# Altium integrated library Renesas Microprocessor SuperH.IntLib: 433 symbols (part 8 of 62)
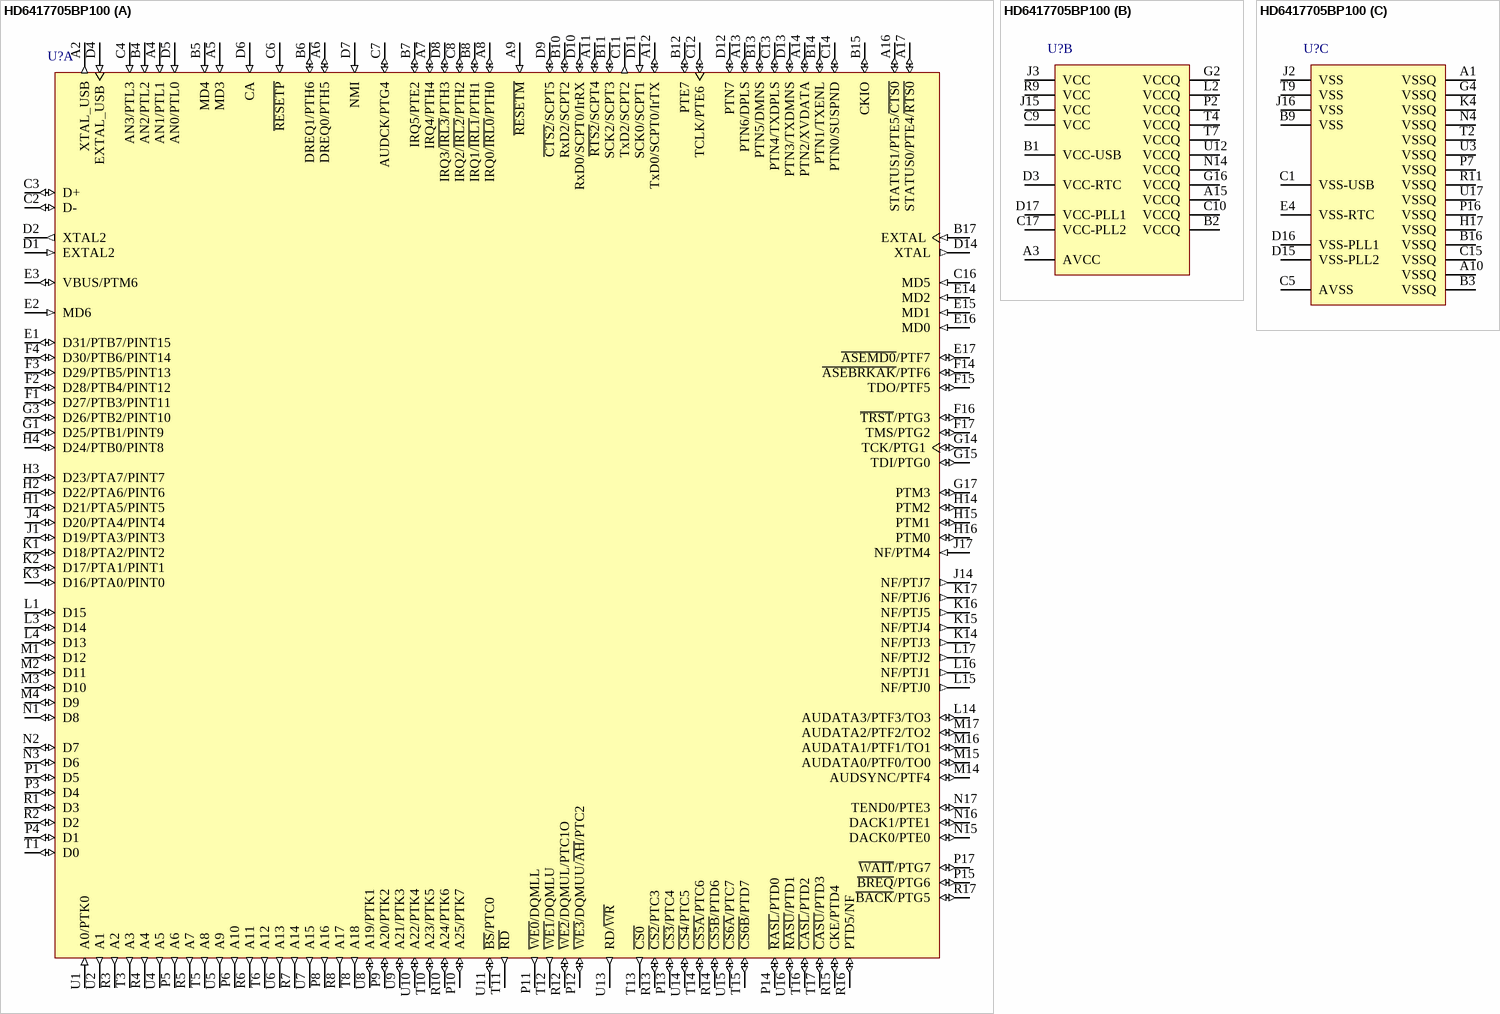
[diagram p283: symbol HD6417705BP100]

## HD6417705BP100
designator U?
32-Bit RISC Microcomputer, SH7700 Series, SH-3 core, 100MHz, 208-pin TFBGA, -20 to 75°C; Published: 28-Aug-2009; DatasheetVersion: Rev.2.00, Sep-2003; PackageVersion: Sep-2005; PackageReference: TTBG0208JA-A; Publisher: Altium Limited; PackageDescription: 208-Ball Thin Fine-Pitch Ball Grid Array, 12 x 12 mm Body, 0.65 mm Pitch; Code_JEITA: T-TFBGA208-12x12-0.65; ComponentLink1Description: Manufacturer Link; ComponentLink1URL: http://www.renesas.com/fmwk.jsp?cnt=sh7705_root.jsp&fp=/products/mpumcu/superh_family/sh7700_series/sh7705_group/; ComponentLink2Description: Datasheet; ComponentLink2URL: http://documentation.renesas.com/eng/products/mpumcu/rej09b0082_sh7705.pdf; ComponentLink3Description: Packaging Specification; ComponentLink3URL: http://sg.renesas.com/media/products/common_info/package/pdf/ic/code/ttbg0208ja_a.pdf
footprint TTBG0208JA-A (BGA, 208-Leads, Body 12x12mm, Pitch 0.65mm)
part A pins: A2 XTAL_USB (out) "USB clock", A4 AN1/PTL1 (in) "A/D converter input / input port L", A5 MD3 (in) "Area 0 bus width setting", A6 DREQ0/PTH5 (io) "DMA request / input/output port H", A7 IRQ4/PTH4 (io) "External interrupt request / input/output port H", A8 IRQ0/~{IRL0}/PTH0 (io) "External interrupt request / input/output port H", A9 ~{RESETM} (in) "Manual reset request", A11 ~{RTS2}/SCPT4 (io) "SCIF2 transmit request / SC port", A12 TxD0/SCPT0/IrTX (io) "SCIF0 transmit data / SC port / IrDA TX port", A13 PTN6/DPLS (io) "input/output port N / D+ input from USBreceiver", A14 PTN2/XVDATA (io) "input/output port N / USB differential receive input", A16 STATUS1/PTE5/~{CTS0} (io) "Processor status/ input/output port E / SCIF0transmit clear", A17 STATUS0/PTE4/~{RTS0} (io) "Processor status / input/output port E / SCIF0transmit request", B4 AN2/PTL2 (in) "A/D converter input / input port L", B5 MD4 (in) "Area 0 bus width setting", B6 DREQ1/PTH6 (io) "DMA request / input/output port H", B7 IRQ5/PTE2 (io) "External interrupt request / input/output port E", B8 IRQ1/~{IRL1}/PTH1 (io) "External interrupt request / input/output port H", B10 RxD2/SCPT2 (io) "SCIF2 receive data / SC port", B11 SCK2/SCPT3 (io) "SCIF2 clock / SC port", B12 PTE7 (io) "Input/output port E", B13 PTN5/DMNS (io) "input/output port N / D- input from USBreceiver", B14 PTN1/TXENL (io) "input/output port N / USB output enable", B15 CKIO (io) "I/O System clock input/output", B17 EXTAL (in) "External clock / crystal oscillator pin", C2 D- (io) "USB data line", C3 D+ (io) "USB data line", C4 AN3/PTL3 (in) "A/D converter input / input port L", C6 ~{RESETP} (in) "Power-on reset request", C7 AUDCK/PTG4 (io) "AUD clock / input/output port G", C8 IRQ2/~{IRL2}/PTH2 (io) "External interrupt request / input/output port H", C11 TxD2/SCPT2 (out) "SCIF2 transmit data / SC port", C12 TCLK/PTE6 (io) "TMU clock input / input/output port E", C13 PTN4/TXDPLS (io) "input/output port N / USB D+ transmit output", C14 PTN0/SUSPND (io) "input/output port N / USB suspend", C16 MD5 (in) "Endian setting", D1 EXTAL2 (in) "Crystal oscillator pin for on-chip RTC", D2 XTAL2 (out) "Crystal oscillator pin for on-chip RTC", D4 EXTAL_USB (in) "USB clock", D5 AN0/PTL0 (in) "A/D converter input / input port L", D6 CA (in) "Hardware standby request", D7 NMI (in) "Nonmaskable interrupt request", D8 IRQ3/~{IRL3}/PTH3 (io) "External interrupt request / input/output port H", D9 ~{CTS2}/SCPT5 (io) "SCIF2 transmit clear / SC port", D10 RxD0/SCPT0/IrRX (io) "SCIF0 receive data / SC port / IrDA RX port", D11 SCK0/SCPT1 (in) "SCIF0 clock / SC port", D12 PTN7 (io) "input/output port N", D13 PTN3/TXDMNS (io) "input/output port N / USB D- transmit output", D14 XTAL (out) "Crystal oscillator pin", E1 D31/PTB7/PINT15 (io) "Data bus / input/output port B / PINT interrupt", E2 MD6 (in) "connect to I/O power supply (0V)", E3 VBUS/PTM6 (io) "USB power supply detection / input/output port M", E14 MD2 (in) "Clock mode setting", E15 MD1 (in) "Clock mode setting", E16 MD0 (in) "Clock mode setting", E17 ~{ASEMD0}/PTF7 (io) "ASE mode (UDI) / input/output port F", F1 D27/PTB3/PINT11 (io) "Data bus / input/output port B / PINT interrupt", F2 D28/PTB4/PINT12 (io) "Data bus / input/output port B / PINT interrupt", F3 D29/PTB5/PINT13 (io) "Data bus / input/output port B / PINT interrupt", F4 D30/PTB6/PINT14 (io) "Data bus / input/output port B / PINT interrupt", F14 ~{ASEBRKAK}/PTF6 (io) "ASE break acknowledge (UDI) / input/outputport F", F15 TDO/PTF5 (io) "Test data output (UDI) / input/output port F", F16 ~{TRST}/PTG3 (io) "Test reset (UDI) / input/outputport G", F17 TMS/PTG2 (io) "Test mode select (UDI) / input/output port G", G1 D25/PTB1/PINT9 (io) "Data bus / input/output port B / PINT interrupt", G3 D26/PTB2/PINT10 (io) "Data bus / input/output port B / PINT interrupt", G14 TCK/PTG1 (io) "Test clock (UDI) / input/output port G", G15 TDI/PTG0 (io) "Test data input (UDI) / input/output port G", G17 PTM3 (io) "Input/output port M", H1 D21/PTA5/PINT5 (io) "Data bus / input/output port A / PINT interrupt", H2 D22/PTA6/PINT6 (io) "Data bus / input/output port A / PINT interrupt", H3 D23/PTA7/PINT7 (io) "Data bus / input/output port A / PINT interrupt", H4 D24/PTB0/PINT8 (io) "Data bus / input/output port B / PINT interrupt", H14 PTM2 (io) "Input/output port M", H15 PTM1 (io) "Input/output port M", H16 PTM0 (io) "Input/output port M", J1 D19/PTA3/PINT3 (io) "Data bus / input/output port A / PINT interrupt", J4 D20/PTA4/PINT4 (io) "Data bus / input/output port A / PINT interrupt", J14 NF/PTJ7 (out) "NF / output port J", J17 NF/PTM4 (in) "NF / input port M", K1 D18/PTA2/PINT2 (io) "Data bus / input/output port A / PINT interrupt", K2 D17/PTA1/PINT1 (io) "Data bus / input/output port A / PINT interrupt", K3 D16/PTA0/PINT0 (io) "Data bus / input/output port A / PINT interrupt", K14 NF/PTJ3 (out) "NF / output port J", K15 NF/PTJ4 (out) "NF / output port J", K16 NF/PTJ5 (out) "NF / output port J", K17 NF/PTJ6 (out) "NF / output port J", L1 D15 (io) "Data bus", L3 D14 (io) "Data bus", L4 D13 (io) "Data bus", L14 AUDATA3/PTF3/TO3 (io) "AUD data output/input/output port F / timer output", L15 NF/PTJ0 (out) "NF / output port J", L16 NF/PTJ1 (out) "NF / output port J", L17 NF/PTJ2 (out) "NF / output port J", M1 D12 (io) "Data bus", M2 D11 (io) "Data bus", M3 D10 (io) "Data bus", M4 D9 (io) "Data bus", M14 AUDSYNC/PTF4 (io) "AUD synchronous / input/output port F", M15 AUDATA0/PTF0/TO0 (io) "AUD data output/input/output port F / timer output", M16 AUDATA1/PTF1/TO1 (io) "AUD data output/input/output port F / timer output", M17 AUDATA2/PTF2/TO2 (io) "AUD data output/input/output port F / timer output", N1 D8 (io) "Data bus", N2 D7 (io) "Data bus", N3 D6 (io) "Data bus", N15 DACK0/PTE0 (io) "DMA acknowledge 0 / input/output port E", N16 DACK1/PTE1 (io) "DMA acknowledge 1 / input/output port E", N17 TEND0/PTE3 (io) "DMA transfer end notification / input/outputport E", P1 D5 (io) "Data bus", P3 D4 (io) "Data bus", P4 D1 (io) "Data bus", P5 A6 (out) "Address bus", P6 A10 (out) "Address bus", P8 A16 (out) "Address bus", P9 A20/PTK2 (io) "Address bus / input/output port K", P10 A25/PTK7 (io) "Address bus / input/output port K", P11 ~{WE0}/DQMLL (out) "D7 to D0 select signal / DQM (SDRAM)", P12 ~{WE3}/DQMUU/~{AH}/PTC2 (io) "D31 to D24 select signal / DQM (SDRAM) / address hold / input/output port C", P13 ~{CS3}/PTC4 (io) "Chip select 3 / input/output port C", P14 ~{RASL}/PTD0 (io) "Lower 32 Mbytes address RAS (SDRAM) / input/output port D", P15 ~{BREQ}/PTG6 (io) "Bus request / input/output port G", P17 ~{WAIT}/PTG7 (io) "Hardware wait request / input/output port G", R1 D3 (io) "Data bus", R2 D2 (io) "Data bus", R3 A2 (out) "Address bus", R4 A4 (out) "Address bus", R5 A7 (out) "Address bus", R6 A11 (out) "Address bus", R7 A14 (out) "Address bus", R8 A17 (out) "Address bus", R10 A24/PTK6 (io) "Address bus / input/output port K", R12 ~{WE2}/DQMUL/PTC1O (io) "D23 to D16 select signal / DQM (SDRAM) / input/output port C", R13 ~{CS2}/PTC3 (io) "Chip select 2 / input/output port C", R14 ~{CS5B}/PTD6 (io) "Chip select 5B / input/output port D", R15 CKE/PTD4 (io) "CK enable (SDRAM) / input/output port D", R16 PTD5/NF (io) "Input port D / NF", R17 ~{BACK}/PTG5 (io) "Bus acknowledge / input/output port G", T1 D0 (io) "Data bus", T3 A3 (out) "Address bus", T5 A8 (out) "Address bus", T6 A12 (out) "Address bus", T8 A18 (out) "Address bus", T10 A23/PTK5 (io) "Address bus / input/output port K", T11 ~{RD} (out) "Read strobe", T12 ~{WE1}/DQMLU (out) "D15 to D8 select signal / DQM (SDRAM)", T13 ~{CS0} (out) "Chip select 0", T14 ~{CS5A}/PTC6 (io) "Chip select 5A / input/output port C", T15 ~{CS6B}/PTD7 (io) "Chip select 6B / input/output port D", T16 ~{CASL}/PTD2 (io) "Lower 32 Mbytes address CAS (SDRAM) / input/output port D", T17 ~{CASU}/PTD3 (io) "Upper 32 Mbytes address CAS (SDRAM) / input/output port D", U1 A0/PTK0 (in) "Address bus / input/output port K", U2 A1 (out) "Address bus", U4 A5 (out) "Address bus", U5 A9 (out) "Address bus", U6 A13 (out) "Address bus", U7 A15 (out) "Address bus", U8 A19/PTK1 (io) "Address bus / input/output port K", U9 A21/PTK3 (io) "Address bus / input/output port K", U10 A22/PTK4 (io) "Address bus / input/output port K", U11 ~{BS}/PTC0 (io) "Bus cycle start signal / input/output port C", U13 RD/~{WR} (out) "Read/write", U14 ~{CS4}/PTC5 (io) "Chip select 4 / input/output port C", U15 ~{CS6A}/PTC7 (io) "Chip select 6A / input/output port C", U16 ~{RASU}/PTD1 (io) "Upper 32 Mbytes address RAS (SDRAM) / input/output port D"
part B pins: A3 AVCC (power) "Analog power supply (3.3V)", A15 VCCQ (power) "I/O power supply (3.3V)", B1 VCC-USB (power) "USB power supply (3.3V)", B2 VCCQ (power) "I/O power supply (3.3V)", C9 VCC (power) "Internal power supply (1.5V)", C10 VCCQ (power) "I/O power supply (3.3V)", C17 VCC-PLL2 (power) "PLL2 power supply (1.5V)", D3 VCC-RTC (power) "RTC power supply (3.3V)", D17 VCC-PLL1 (power) "PLL1 power supply (1.5V)", G2 VCCQ (power) "I/O power supply (3.3V)", G16 VCCQ (power) "I/O power supply (3.3V)", J3 VCC (power) "Internal power supply (1.5V)", J15 VCC (power) "Internal power supply (1.5V)", L2 VCCQ (power) "I/O power supply (3.3V)", N14 VCCQ (power) "I/O power supply (3.3V)", P2 VCCQ (power) "I/O power supply (3.3V)", R9 VCC (power) "internal power supply (1.5V)", T4 VCCQ (power) "I/O power supply (3.3V)", T7 VCCQ (power) "I/O power supply (3.3V)", U12 VCCQ (power) "I/O power supply (3.3V)"
part C pins: A1 VSSQ (power) "I/O power supply (0V)", A10 VSSQ (power) "I/O power supply (0V)", B3 VSSQ (power) "I/O power supply (0V)", B9 VSS (power) "I/O power supply (0V)", B16 VSSQ (power) "I/O power supply (0V)", C1 VSS-USB (power) "USB power supply (0V)", C5 AVSS (power) "Analog power supply (0V)", C15 VSSQ (power) "I/O power supply (0V)", D15 VSS-PLL2 (power) "PLL2 power supply (0V)", D16 VSS-PLL1 (power) "PLL1 power supply (0V)", E4 VSS-RTC (power) "RTC power supply (0V)", G4 VSSQ (power) "I/O power supply (0V)", H17 VSSQ (power) "I/O power supply (0V)", J2 VSS (power) "Internal power supply (0V)", J16 VSS (power) "Internal power supply (0V)", K4 VSSQ (power) "I/O power supply (0V)", N4 VSSQ (power) "I/O power supply (0V)", P7 VSSQ (power) "I/O power supply (0V)", P16 VSSQ (power) "I/O power supply (0V)", R11 VSSQ (power) "I/O power supply (0V)", T2 VSSQ (power) "I/O power supply (0V)", T9 VSS (power) "internal power supply (0V)", U3 VSSQ (power) "I/O power supply (0V)", U17 VSSQ (power) "I/O power supply (0V)"

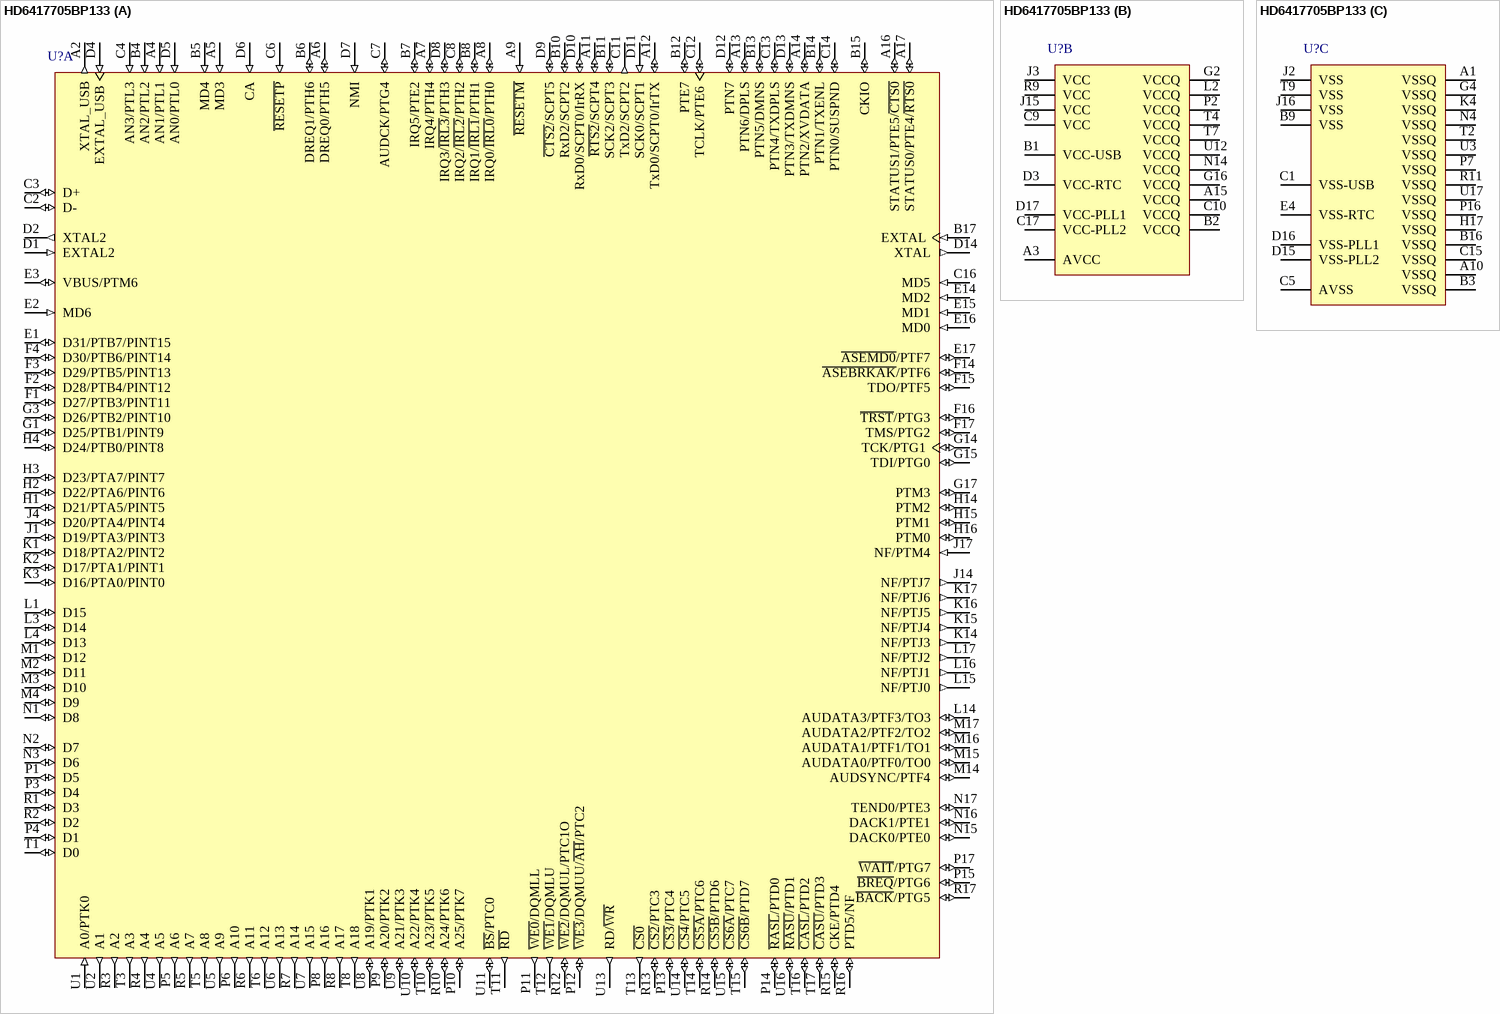
[diagram p27: symbol HD6417705BP133]

## HD6417705BP133
designator U?
32-Bit RISC Microcomputer, SH7700 Series, SH-3 core, 133MHz, 208-pin TFBGA, -20 to 75°C; Published: 28-Aug-2009; DatasheetVersion: Rev.2.00, Sep-2003; PackageVersion: Sep-2005; PackageReference: TTBG0208JA-A; Publisher: Altium Limited; PackageDescription: 208-Ball Thin Fine-Pitch Ball Grid Array, 12 x 12 mm Body, 0.65 mm Pitch; Code_JEITA: T-TFBGA208-12x12-0.65; ComponentLink1Description: Manufacturer Link; ComponentLink1URL: http://www.renesas.com/fmwk.jsp?cnt=sh7705_root.jsp&fp=/products/mpumcu/superh_family/sh7700_series/sh7705_group/; ComponentLink2Description: Datasheet; ComponentLink2URL: http://documentation.renesas.com/eng/products/mpumcu/rej09b0082_sh7705.pdf; ComponentLink3Description: Packaging Specification; ComponentLink3URL: http://sg.renesas.com/media/products/common_info/package/pdf/ic/code/ttbg0208ja_a.pdf
footprint TTBG0208JA-A (BGA, 208-Leads, Body 12x12mm, Pitch 0.65mm)
part A pins: A2 XTAL_USB (out) "USB clock", A4 AN1/PTL1 (in) "A/D converter input / input port L", A5 MD3 (in) "Area 0 bus width setting", A6 DREQ0/PTH5 (io) "DMA request / input/output port H", A7 IRQ4/PTH4 (io) "External interrupt request / input/output port H", A8 IRQ0/~{IRL0}/PTH0 (io) "External interrupt request / input/output port H", A9 ~{RESETM} (in) "Manual reset request", A11 ~{RTS2}/SCPT4 (io) "SCIF2 transmit request / SC port", A12 TxD0/SCPT0/IrTX (io) "SCIF0 transmit data / SC port / IrDA TX port", A13 PTN6/DPLS (io) "input/output port N / D+ input from USBreceiver", A14 PTN2/XVDATA (io) "input/output port N / USB differential receive input", A16 STATUS1/PTE5/~{CTS0} (io) "Processor status/ input/output port E / SCIF0transmit clear", A17 STATUS0/PTE4/~{RTS0} (io) "Processor status / input/output port E / SCIF0transmit request", B4 AN2/PTL2 (in) "A/D converter input / input port L", B5 MD4 (in) "Area 0 bus width setting", B6 DREQ1/PTH6 (io) "DMA request / input/output port H", B7 IRQ5/PTE2 (io) "External interrupt request / input/output port E", B8 IRQ1/~{IRL1}/PTH1 (io) "External interrupt request / input/output port H", B10 RxD2/SCPT2 (io) "SCIF2 receive data / SC port", B11 SCK2/SCPT3 (io) "SCIF2 clock / SC port", B12 PTE7 (io) "Input/output port E", B13 PTN5/DMNS (io) "input/output port N / D- input from USBreceiver", B14 PTN1/TXENL (io) "input/output port N / USB output enable", B15 CKIO (io) "I/O System clock input/output", B17 EXTAL (in) "External clock / crystal oscillator pin", C2 D- (io) "USB data line", C3 D+ (io) "USB data line", C4 AN3/PTL3 (in) "A/D converter input / input port L", C6 ~{RESETP} (in) "Power-on reset request", C7 AUDCK/PTG4 (io) "AUD clock / input/output port G", C8 IRQ2/~{IRL2}/PTH2 (io) "External interrupt request / input/output port H", C11 TxD2/SCPT2 (out) "SCIF2 transmit data / SC port", C12 TCLK/PTE6 (io) "TMU clock input / input/output port E", C13 PTN4/TXDPLS (io) "input/output port N / USB D+ transmit output", C14 PTN0/SUSPND (io) "input/output port N / USB suspend", C16 MD5 (in) "Endian setting", D1 EXTAL2 (in) "Crystal oscillator pin for on-chip RTC", D2 XTAL2 (out) "Crystal oscillator pin for on-chip RTC", D4 EXTAL_USB (in) "USB clock", D5 AN0/PTL0 (in) "A/D converter input / input port L", D6 CA (in) "Hardware standby request", D7 NMI (in) "Nonmaskable interrupt request", D8 IRQ3/~{IRL3}/PTH3 (io) "External interrupt request / input/output port H", D9 ~{CTS2}/SCPT5 (io) "SCIF2 transmit clear / SC port", D10 RxD0/SCPT0/IrRX (io) "SCIF0 receive data / SC port / IrDA RX port", D11 SCK0/SCPT1 (in) "SCIF0 clock / SC port", D12 PTN7 (io) "input/output port N", D13 PTN3/TXDMNS (io) "input/output port N / USB D- transmit output", D14 XTAL (out) "Crystal oscillator pin", E1 D31/PTB7/PINT15 (io) "Data bus / input/output port B / PINT interrupt", E2 MD6 (in) "connect to I/O power supply (0V)", E3 VBUS/PTM6 (io) "USB power supply detection / input/output port M", E14 MD2 (in) "Clock mode setting", E15 MD1 (in) "Clock mode setting", E16 MD0 (in) "Clock mode setting", E17 ~{ASEMD0}/PTF7 (io) "ASE mode (UDI) / input/output port F", F1 D27/PTB3/PINT11 (io) "Data bus / input/output port B / PINT interrupt", F2 D28/PTB4/PINT12 (io) "Data bus / input/output port B / PINT interrupt", F3 D29/PTB5/PINT13 (io) "Data bus / input/output port B / PINT interrupt", F4 D30/PTB6/PINT14 (io) "Data bus / input/output port B / PINT interrupt", F14 ~{ASEBRKAK}/PTF6 (io) "ASE break acknowledge (UDI) / input/outputport F", F15 TDO/PTF5 (io) "Test data output (UDI) / input/output port F", F16 ~{TRST}/PTG3 (io) "Test reset (UDI) / input/outputport G", F17 TMS/PTG2 (io) "Test mode select (UDI) / input/output port G", G1 D25/PTB1/PINT9 (io) "Data bus / input/output port B / PINT interrupt", G3 D26/PTB2/PINT10 (io) "Data bus / input/output port B / PINT interrupt", G14 TCK/PTG1 (io) "Test clock (UDI) / input/output port G", G15 TDI/PTG0 (io) "Test data input (UDI) / input/output port G", G17 PTM3 (io) "Input/output port M", H1 D21/PTA5/PINT5 (io) "Data bus / input/output port A / PINT interrupt", H2 D22/PTA6/PINT6 (io) "Data bus / input/output port A / PINT interrupt", H3 D23/PTA7/PINT7 (io) "Data bus / input/output port A / PINT interrupt", H4 D24/PTB0/PINT8 (io) "Data bus / input/output port B / PINT interrupt", H14 PTM2 (io) "Input/output port M", H15 PTM1 (io) "Input/output port M", H16 PTM0 (io) "Input/output port M", J1 D19/PTA3/PINT3 (io) "Data bus / input/output port A / PINT interrupt", J4 D20/PTA4/PINT4 (io) "Data bus / input/output port A / PINT interrupt", J14 NF/PTJ7 (out) "NF / output port J", J17 NF/PTM4 (in) "NF / input port M", K1 D18/PTA2/PINT2 (io) "Data bus / input/output port A / PINT interrupt", K2 D17/PTA1/PINT1 (io) "Data bus / input/output port A / PINT interrupt", K3 D16/PTA0/PINT0 (io) "Data bus / input/output port A / PINT interrupt", K14 NF/PTJ3 (out) "NF / output port J", K15 NF/PTJ4 (out) "NF / output port J", K16 NF/PTJ5 (out) "NF / output port J", K17 NF/PTJ6 (out) "NF / output port J", L1 D15 (io) "Data bus", L3 D14 (io) "Data bus", L4 D13 (io) "Data bus", L14 AUDATA3/PTF3/TO3 (io) "AUD data output/input/output port F / timer output", L15 NF/PTJ0 (out) "NF / output port J", L16 NF/PTJ1 (out) "NF / output port J", L17 NF/PTJ2 (out) "NF / output port J", M1 D12 (io) "Data bus", M2 D11 (io) "Data bus", M3 D10 (io) "Data bus", M4 D9 (io) "Data bus", M14 AUDSYNC/PTF4 (io) "AUD synchronous / input/output port F", M15 AUDATA0/PTF0/TO0 (io) "AUD data output/input/output port F / timer output", M16 AUDATA1/PTF1/TO1 (io) "AUD data output/input/output port F / timer output", M17 AUDATA2/PTF2/TO2 (io) "AUD data output/input/output port F / timer output", N1 D8 (io) "Data bus", N2 D7 (io) "Data bus", N3 D6 (io) "Data bus", N15 DACK0/PTE0 (io) "DMA acknowledge 0 / input/output port E", N16 DACK1/PTE1 (io) "DMA acknowledge 1 / input/output port E", N17 TEND0/PTE3 (io) "DMA transfer end notification / input/outputport E", P1 D5 (io) "Data bus", P3 D4 (io) "Data bus", P4 D1 (io) "Data bus", P5 A6 (out) "Address bus", P6 A10 (out) "Address bus", P8 A16 (out) "Address bus", P9 A20/PTK2 (io) "Address bus / input/output port K", P10 A25/PTK7 (io) "Address bus / input/output port K", P11 ~{WE0}/DQMLL (out) "D7 to D0 select signal / DQM (SDRAM)", P12 ~{WE3}/DQMUU/~{AH}/PTC2 (io) "D31 to D24 select signal / DQM (SDRAM) / address hold / input/output port C", P13 ~{CS3}/PTC4 (io) "Chip select 3 / input/output port C", P14 ~{RASL}/PTD0 (io) "Lower 32 Mbytes address RAS (SDRAM) / input/output port D", P15 ~{BREQ}/PTG6 (io) "Bus request / input/output port G", P17 ~{WAIT}/PTG7 (io) "Hardware wait request / input/output port G", R1 D3 (io) "Data bus", R2 D2 (io) "Data bus", R3 A2 (out) "Address bus", R4 A4 (out) "Address bus", R5 A7 (out) "Address bus", R6 A11 (out) "Address bus", R7 A14 (out) "Address bus", R8 A17 (out) "Address bus", R10 A24/PTK6 (io) "Address bus / input/output port K", R12 ~{WE2}/DQMUL/PTC1O (io) "D23 to D16 select signal / DQM (SDRAM) / input/output port C", R13 ~{CS2}/PTC3 (io) "Chip select 2 / input/output port C", R14 ~{CS5B}/PTD6 (io) "Chip select 5B / input/output port D", R15 CKE/PTD4 (io) "CK enable (SDRAM) / input/output port D", R16 PTD5/NF (io) "Input port D / NF", R17 ~{BACK}/PTG5 (io) "Bus acknowledge / input/output port G", T1 D0 (io) "Data bus", T3 A3 (out) "Address bus", T5 A8 (out) "Address bus", T6 A12 (out) "Address bus", T8 A18 (out) "Address bus", T10 A23/PTK5 (io) "Address bus / input/output port K", T11 ~{RD} (out) "Read strobe", T12 ~{WE1}/DQMLU (out) "D15 to D8 select signal / DQM (SDRAM)", T13 ~{CS0} (out) "Chip select 0", T14 ~{CS5A}/PTC6 (io) "Chip select 5A / input/output port C", T15 ~{CS6B}/PTD7 (io) "Chip select 6B / input/output port D", T16 ~{CASL}/PTD2 (io) "Lower 32 Mbytes address CAS (SDRAM) / input/output port D", T17 ~{CASU}/PTD3 (io) "Upper 32 Mbytes address CAS (SDRAM) / input/output port D", U1 A0/PTK0 (in) "Address bus / input/output port K", U2 A1 (out) "Address bus", U4 A5 (out) "Address bus", U5 A9 (out) "Address bus", U6 A13 (out) "Address bus", U7 A15 (out) "Address bus", U8 A19/PTK1 (io) "Address bus / input/output port K", U9 A21/PTK3 (io) "Address bus / input/output port K", U10 A22/PTK4 (io) "Address bus / input/output port K", U11 ~{BS}/PTC0 (io) "Bus cycle start signal / input/output port C", U13 RD/~{WR} (out) "Read/write", U14 ~{CS4}/PTC5 (io) "Chip select 4 / input/output port C", U15 ~{CS6A}/PTC7 (io) "Chip select 6A / input/output port C", U16 ~{RASU}/PTD1 (io) "Upper 32 Mbytes address RAS (SDRAM) / input/output port D"
part B pins: A3 AVCC (power) "Analog power supply (3.3V)", A15 VCCQ (power) "I/O power supply (3.3V)", B1 VCC-USB (power) "USB power supply (3.3V)", B2 VCCQ (power) "I/O power supply (3.3V)", C9 VCC (power) "Internal power supply (1.5V)", C10 VCCQ (power) "I/O power supply (3.3V)", C17 VCC-PLL2 (power) "PLL2 power supply (1.5V)", D3 VCC-RTC (power) "RTC power supply (3.3V)", D17 VCC-PLL1 (power) "PLL1 power supply (1.5V)", G2 VCCQ (power) "I/O power supply (3.3V)", G16 VCCQ (power) "I/O power supply (3.3V)", J3 VCC (power) "Internal power supply (1.5V)", J15 VCC (power) "Internal power supply (1.5V)", L2 VCCQ (power) "I/O power supply (3.3V)", N14 VCCQ (power) "I/O power supply (3.3V)", P2 VCCQ (power) "I/O power supply (3.3V)", R9 VCC (power) "internal power supply (1.5V)", T4 VCCQ (power) "I/O power supply (3.3V)", T7 VCCQ (power) "I/O power supply (3.3V)", U12 VCCQ (power) "I/O power supply (3.3V)"
part C pins: A1 VSSQ (power) "I/O power supply (0V)", A10 VSSQ (power) "I/O power supply (0V)", B3 VSSQ (power) "I/O power supply (0V)", B9 VSS (power) "I/O power supply (0V)", B16 VSSQ (power) "I/O power supply (0V)", C1 VSS-USB (power) "USB power supply (0V)", C5 AVSS (power) "Analog power supply (0V)", C15 VSSQ (power) "I/O power supply (0V)", D15 VSS-PLL2 (power) "PLL2 power supply (0V)", D16 VSS-PLL1 (power) "PLL1 power supply (0V)", E4 VSS-RTC (power) "RTC power supply (0V)", G4 VSSQ (power) "I/O power supply (0V)", H17 VSSQ (power) "I/O power supply (0V)", J2 VSS (power) "Internal power supply (0V)", J16 VSS (power) "Internal power supply (0V)", K4 VSSQ (power) "I/O power supply (0V)", N4 VSSQ (power) "I/O power supply (0V)", P7 VSSQ (power) "I/O power supply (0V)", P16 VSSQ (power) "I/O power supply (0V)", R11 VSSQ (power) "I/O power supply (0V)", T2 VSSQ (power) "I/O power supply (0V)", T9 VSS (power) "internal power supply (0V)", U3 VSSQ (power) "I/O power supply (0V)", U17 VSSQ (power) "I/O power supply (0V)"

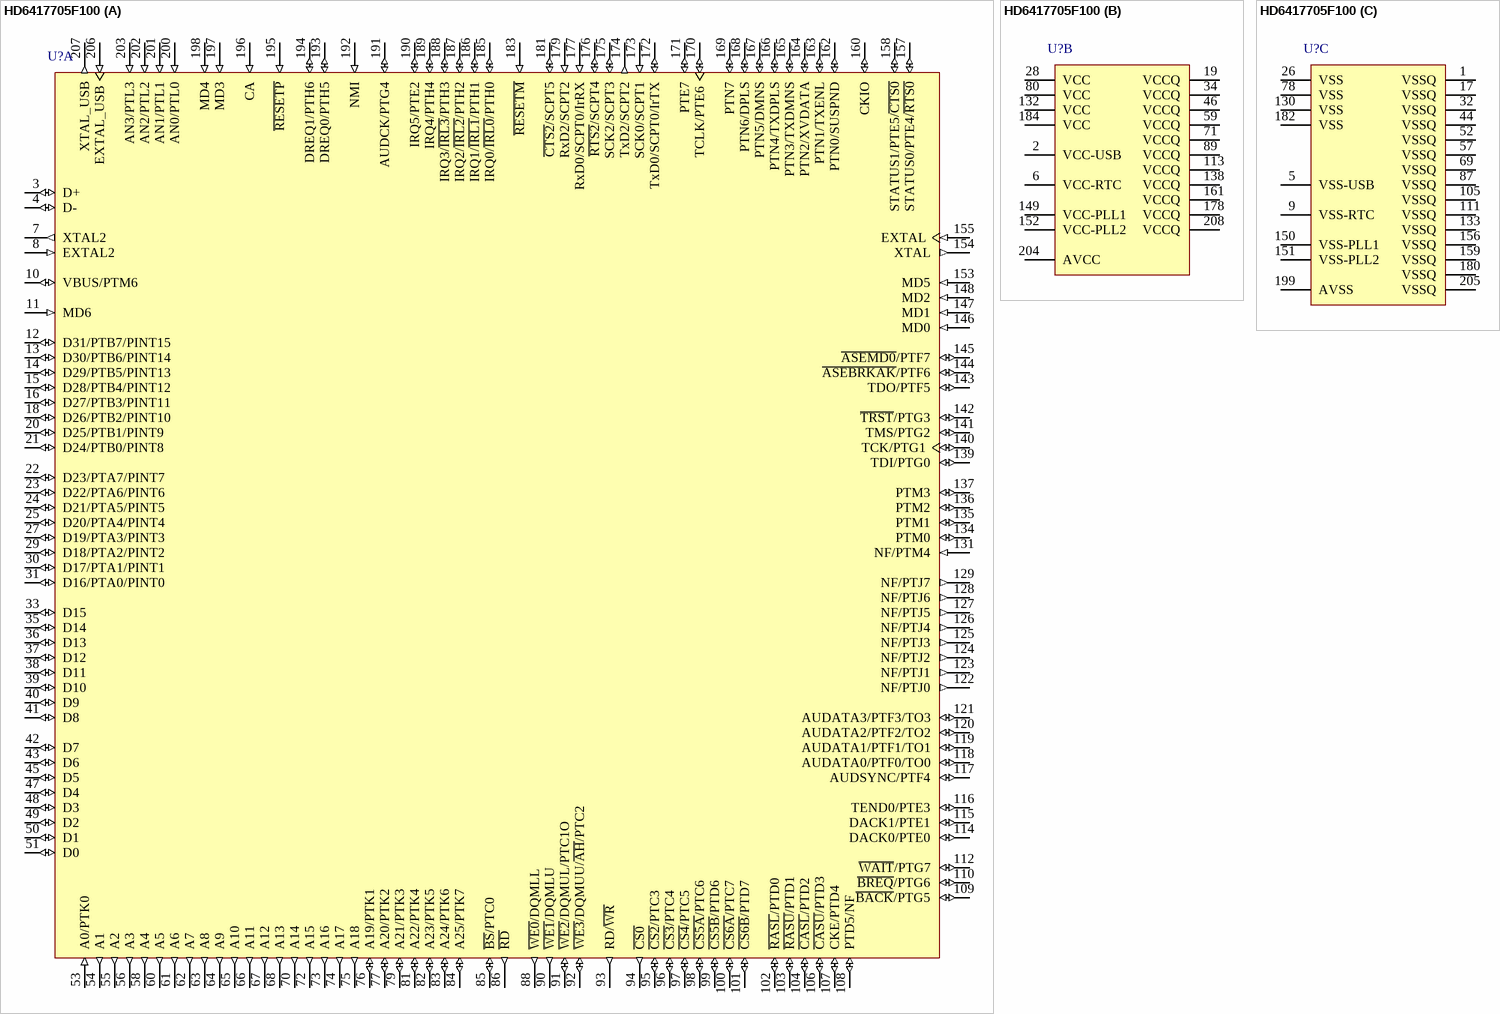
[diagram p28: symbol HD6417705F100]

## HD6417705F100
designator U?
32-Bit RISC Microcomputer, SH7700 Series, SH-3 core, 100MHz, 208-pin LQFP, -20 to 75°C; Published: 28-Aug-2009; DatasheetVersion: Rev.2.00, Sep-2003; PackageVersion: Sep-2005; PackageReference: PLQP0208KA-A; Publisher: Altium Limited; PackageDescription: 208-Pin Plastic Low Profile QFP, 28 x 28 x 1.4 mm Body, 0.5 mm Pitch; Supplier 1: Digi-Key; Supplier Part Number 1: HD6417705F100-ND; Code_JEITA: P-LQFP208-28x28-0.50; ComponentLink1Description: Manufacturer Link; ComponentLink1URL: http://www.renesas.com/fmwk.jsp?cnt=sh7705_root.jsp&fp=/products/mpumcu/superh_family/sh7700_series/sh7705_group/; ComponentLink2Description: Datasheet; ComponentLink2URL: http://documentation.renesas.com/eng/products/mpumcu/rej09b0082_sh7705.pdf; ComponentLink3Description: Packaging Specification; ComponentLink3URL: http://sg.renesas.com/media/products/common_info/package/pdf/ic/code/plqp0208ka_a.pdf
footprint PLQP0208KA-A_N (Shrink QFP, 208-Leads, Body 28x28mm, Pitch 0.5mm, IPC Medium Density)
footprint PLQP0208KA-A_L (Shrink QFP, 208-Leads, Body 28x28mm, Pitch 0.5mm, IPC High Density)
footprint PLQP0208KA-A_M (Shrink QFP, 208-Leads, Body 28x28mm, Pitch 0.5mm, IPC Low Density)
part A pins: 3 D+ (io) "USB data line", 4 D- (io) "USB data line", 7 XTAL2 (out) "Crystal oscillator pin for on-chip RTC", 8 EXTAL2 (in) "Crystal oscillator pin for on-chip RTC", 10 VBUS/PTM6 (io) "USB power supply detection / input/output port M", 11 MD6 (in) "connect to I/O power supply (0V)", 12 D31/PTB7/PINT15 (io) "Data bus / input/output port B / PINT interrupt", 13 D30/PTB6/PINT14 (io) "Data bus / input/output port B / PINT interrupt", 14 D29/PTB5/PINT13 (io) "Data bus / input/output port B / PINT interrupt", 15 D28/PTB4/PINT12 (io) "Data bus / input/output port B / PINT interrupt", 16 D27/PTB3/PINT11 (io) "Data bus / input/output port B / PINT interrupt", 18 D26/PTB2/PINT10 (io) "Data bus / input/output port B / PINT interrupt", 20 D25/PTB1/PINT9 (io) "Data bus / input/output port B / PINT interrupt", 21 D24/PTB0/PINT8 (io) "Data bus / input/output port B / PINT interrupt", 22 D23/PTA7/PINT7 (io) "Data bus / input/output port A / PINT interrupt", 23 D22/PTA6/PINT6 (io) "Data bus / input/output port A / PINT interrupt", 24 D21/PTA5/PINT5 (io) "Data bus / input/output port A / PINT interrupt", 25 D20/PTA4/PINT4 (io) "Data bus / input/output port A / PINT interrupt", 27 D19/PTA3/PINT3 (io) "Data bus / input/output port A / PINT interrupt", 29 D18/PTA2/PINT2 (io) "Data bus / input/output port A / PINT interrupt", 30 D17/PTA1/PINT1 (io) "Data bus / input/output port A / PINT interrupt", 31 D16/PTA0/PINT0 (io) "Data bus / input/output port A / PINT interrupt", 33 D15 (io) "Data bus", 35 D14 (io) "Data bus", 36 D13 (io) "Data bus", 37 D12 (io) "Data bus", 38 D11 (io) "Data bus", 39 D10 (io) "Data bus", 40 D9 (io) "Data bus", 41 D8 (io) "Data bus", 42 D7 (io) "Data bus", 43 D6 (io) "Data bus", 45 D5 (io) "Data bus", 47 D4 (io) "Data bus", 48 D3 (io) "Data bus", 49 D2 (io) "Data bus", 50 D1 (io) "Data bus", 51 D0 (io) "Data bus", 53 A0/PTK0 (in) "Address bus / input/output port K", 54 A1 (out) "Address bus", 55 A2 (out) "Address bus", 56 A3 (out) "Address bus", 58 A4 (out) "Address bus", 60 A5 (out) "Address bus", 61 A6 (out) "Address bus", 62 A7 (out) "Address bus", 63 A8 (out) "Address bus", 64 A9 (out) "Address bus", 65 A10 (out) "Address bus", 66 A11 (out) "Address bus", 67 A12 (out) "Address bus", 68 A13 (out) "Address bus", 70 A14 (out) "Address bus", 72 A15 (out) "Address bus", 73 A16 (out) "Address bus", 74 A17 (out) "Address bus", 75 A18 (out) "Address bus", 76 A19/PTK1 (io) "Address bus / input/output port K", 77 A20/PTK2 (io) "Address bus / input/output port K", 79 A21/PTK3 (io) "Address bus / input/output port K", 81 A22/PTK4 (io) "Address bus / input/output port K", 82 A23/PTK5 (io) "Address bus / input/output port K", 83 A24/PTK6 (io) "Address bus / input/output port K", 84 A25/PTK7 (io) "Address bus / input/output port K", 85 ~{BS}/PTC0 (io) "Bus cycle start signal / input/output port C", 86 ~{RD} (out) "Read strobe", 88 ~{WE0}/DQMLL (out) "D7 to D0 select signal / DQM (SDRAM)", 90 ~{WE1}/DQMLU (out) "D15 to D8 select signal / DQM (SDRAM)", 91 ~{WE2}/DQMUL/PTC1O (io) "D23 to D16 select signal / DQM (SDRAM) / input/output port C", 92 ~{WE3}/DQMUU/~{AH}/PTC2 (io) "D31 to D24 select signal / DQM (SDRAM) / address hold / input/output port C", 93 RD/~{WR} (out) "Read/write", 94 ~{CS0} (out) "Chip select 0", 95 ~{CS2}/PTC3 (io) "Chip select 2 / input/output port C", 96 ~{CS3}/PTC4 (io) "Chip select 3 / input/output port C", 97 ~{CS4}/PTC5 (io) "Chip select 4 / input/output port C", 98 ~{CS5A}/PTC6 (io) "Chip select 5A / input/output port C", 99 ~{CS5B}/PTD6 (io) "Chip select 5B / input/output port D", 100 ~{CS6A}/PTC7 (io) "Chip select 6A / input/output port C", 101 ~{CS6B}/PTD7 (io) "Chip select 6B / input/output port D", 102 ~{RASL}/PTD0 (io) "Lower 32 Mbytes address RAS (SDRAM) / input/output port D", 103 ~{RASU}/PTD1 (io) "Upper 32 Mbytes address RAS (SDRAM) / input/output port D", 104 ~{CASL}/PTD2 (io) "Lower 32 Mbytes address CAS (SDRAM) / input/output port D", 106 ~{CASU}/PTD3 (io) "Upper 32 Mbytes address CAS (SDRAM) / input/output port D", 107 CKE/PTD4 (io) "CK enable (SDRAM) / input/output port D", 108 PTD5/NF (io) "Input port D / NF", 109 ~{BACK}/PTG5 (io) "Bus acknowledge / input/output port G", 110 ~{BREQ}/PTG6 (io) "Bus request / input/output port G", 112 ~{WAIT}/PTG7 (io) "Hardware wait request / input/output port G", 114 DACK0/PTE0 (io) "DMA acknowledge 0 / input/output port E", 115 DACK1/PTE1 (io) "DMA acknowledge 1 / input/output port E", 116 TEND0/PTE3 (io) "DMA transfer end notification / input/outputport E", 117 AUDSYNC/PTF4 (io) "AUD synchronous / input/output port F", 118 AUDATA0/PTF0/TO0 (io) "AUD data output/input/output port F / timer output", 119 AUDATA1/PTF1/TO1 (io) "AUD data output/input/output port F / timer output", 120 AUDATA2/PTF2/TO2 (io) "AUD data output/input/output port F / timer output", 121 AUDATA3/PTF3/TO3 (io) "AUD data output/input/output port F / timer output", 122 NF/PTJ0 (out) "NF / output port J", 123 NF/PTJ1 (out) "NF / output port J", 124 NF/PTJ2 (out) "NF / output port J", 125 NF/PTJ3 (out) "NF / output port J", 126 NF/PTJ4 (out) "NF / output port J", 127 NF/PTJ5 (out) "NF / output port J", 128 NF/PTJ6 (out) "NF / output port J", 129 NF/PTJ7 (out) "NF / output port J", 131 NF/PTM4 (in) "NF / input port M", 134 PTM0 (io) "Input/output port M", 135 PTM1 (io) "Input/output port M", 136 PTM2 (io) "Input/output port M", 137 PTM3 (io) "Input/output port M", 139 TDI/PTG0 (io) "Test data input (UDI) / input/output port G", 140 TCK/PTG1 (io) "Test clock (UDI) / input/output port G", 141 TMS/PTG2 (io) "Test mode select (UDI) / input/output port G", 142 ~{TRST}/PTG3 (io) "Test reset (UDI) / input/outputport G", 143 TDO/PTF5 (io) "Test data output (UDI) / input/output port F", 144 ~{ASEBRKAK}/PTF6 (io) "ASE break acknowledge (UDI) / input/outputport F", 145 ~{ASEMD0}/PTF7 (io) "ASE mode (UDI) / input/output port F", 146 MD0 (in) "Clock mode setting", 147 MD1 (in) "Clock mode setting", 148 MD2 (in) "Clock mode setting", 153 MD5 (in) "Endian setting", 154 XTAL (out) "Crystal oscillator pin", 155 EXTAL (in) "External clock / crystal oscillator pin", 157 STATUS0/PTE4/~{RTS0} (io) "Processor status / input/output port E / SCIF0transmit request", 158 STATUS1/PTE5/~{CTS0} (io) "Processor status/ input/output port E / SCIF0transmit clear", 160 CKIO (io) "I/O System clock input/output", 162 PTN0/SUSPND (io) "input/output port N / USB suspend", 163 PTN1/TXENL (io) "input/output port N / USB output enable", 164 PTN2/XVDATA (io) "input/output port N / USB differential receive input", 165 PTN3/TXDMNS (io) "input/output port N / USB D- transmit output", 166 PTN4/TXDPLS (io) "input/output port N / USB D+ transmit output", 167 PTN5/DMNS (io) "input/output port N / D- input from USBreceiver", 168 PTN6/DPLS (io) "input/output port N / D+ input from USBreceiver", 169 PTN7 (io) "input/output port N", 170 TCLK/PTE6 (io) "TMU clock input / input/output port E", 171 PTE7 (io) "Input/output port E", 172 TxD0/SCPT0/IrTX (io) "SCIF0 transmit data / SC port / IrDA TX port", 173 SCK0/SCPT1 (in) "SCIF0 clock / SC port", 174 TxD2/SCPT2 (out) "SCIF2 transmit data / SC port", 175 SCK2/SCPT3 (io) "SCIF2 clock / SC port", 176 ~{RTS2}/SCPT4 (io) "SCIF2 transmit request / SC port", 177 RxD0/SCPT0/IrRX (in) "SCIF0 receive data / SC port / IrDA RX port", 179 RxD2/SCPT2 (in) "SCIF2 receive data / SC port", 181 ~{CTS2}/SCPT5 (io) "SCIF2 transmit clear / SC port", 183 ~{RESETM} (in) "Manual reset request", 185 IRQ0/~{IRL0}/PTH0 (io) "External interrupt request / input/output port H", 186 IRQ1/~{IRL1}/PTH1 (io) "External interrupt request / input/output port H", 187 IRQ2/~{IRL2}/PTH2 (io) "External interrupt request / input/output port H", 188 IRQ3/~{IRL3}/PTH3 (io) "External interrupt request / input/output port H", 189 IRQ4/PTH4 (io) "External interrupt request / input/output port H", 190 IRQ5/PTE2 (io) "External interrupt request / input/output port E", 191 AUDCK/PTG4 (io) "AUD clock / input/output port G", 192 NMI (in) "Nonmaskable interrupt request", 193 DREQ0/PTH5 (io) "DMA request / input/output port H", 194 DREQ1/PTH6 (io) "DMA request / input/output port H", 195 ~{RESETP} (in) "Power-on reset request", 196 CA (in) "Hardware standby request", 197 MD3 (in) "Area 0 bus width setting", 198 MD4 (in) "Area 0 bus width setting", 200 AN0/PTL0 (in) "A/D converter input / input port L", 201 AN1/PTL1 (in) "A/D converter input / input port L", 202 AN2/PTL2 (in) "A/D converter input / input port L", 203 AN3/PTL3 (in) "A/D converter input / input port L", 206 EXTAL_USB (in) "USB clock", 207 XTAL_USB (out) "USB clock"
part B pins: 2 VCC-USB (power) "USB power supply (3.3V)", 6 VCC-RTC (power) "RTC power supply (3.3V)", 19 VCCQ (power) "I/O power supply (3.3V)", 28 VCC (power) "Internal power supply (1.5V)", 34 VCCQ (power) "I/O power supply (3.3V)", 46 VCCQ (power) "I/O power supply (3.3V)", 59 VCCQ (power) "I/O power supply (3.3V)", 71 VCCQ (power) "I/O power supply (3.3V)", 80 VCC (power) "internal power supply (1.5V)", 89 VCCQ (power) "I/O power supply (3.3V)", 113 VCCQ (power) "I/O power supply (3.3V)", 132 VCC (power) "Internal power supply (1.5V)", 138 VCCQ (power) "I/O power supply (3.3V)", 149 VCC-PLL1 (power) "PLL1 power supply (1.5V)", 152 VCC-PLL2 (power) "PLL2 power supply (1.5V)", 161 VCCQ (power) "I/O power supply (3.3V)", 178 VCCQ (power) "I/O power supply (3.3V)", 184 VCC (power) "Internal power supply (1.5V)", 204 AVCC (power) "Analog power supply (3.3V)", 208 VCCQ (power) "I/O power supply (3.3V)"
part C pins: 1 VSSQ (power) "I/O power supply (0V)", 5 VSS-USB (power) "USB power supply (0V)", 9 VSS-RTC (power) "RTC power supply (0V)", 17 VSSQ (power) "I/O power supply (0V)", 26 VSS (power) "Internal power supply (0V)", 32 VSSQ (power) "I/O power supply (0V)", 44 VSSQ (power) "I/O power supply (0V)", 52 VSSQ (power) "I/O power supply (0V)", 57 VSSQ (power) "I/O power supply (0V)", 69 VSSQ (power) "I/O power supply (0V)", 78 VSS (power) "internal power supply (0V)", 87 VSSQ (power) "I/O power supply (0V)", 105 VSSQ (power) "I/O power supply (0V)", 111 VSSQ (power) "I/O power supply (0V)", 130 VSS (power) "Internal power supply (0V)", 133 VSSQ (power) "I/O power supply (0V)", 150 VSS-PLL1 (power) "PLL1 power supply (0V)", 151 VSS-PLL2 (power) "PLL2 power supply (0V)", 156 VSSQ (power) "I/O power supply (0V)", 159 VSSQ (power) "I/O power supply (0V)", 180 VSSQ (power) "I/O power supply (0V)", 182 VSS (power) "I/O power supply (0V)", 199 AVSS (power) "Analog power supply (0V)", 205 VSSQ (power) "I/O power supply (0V)"

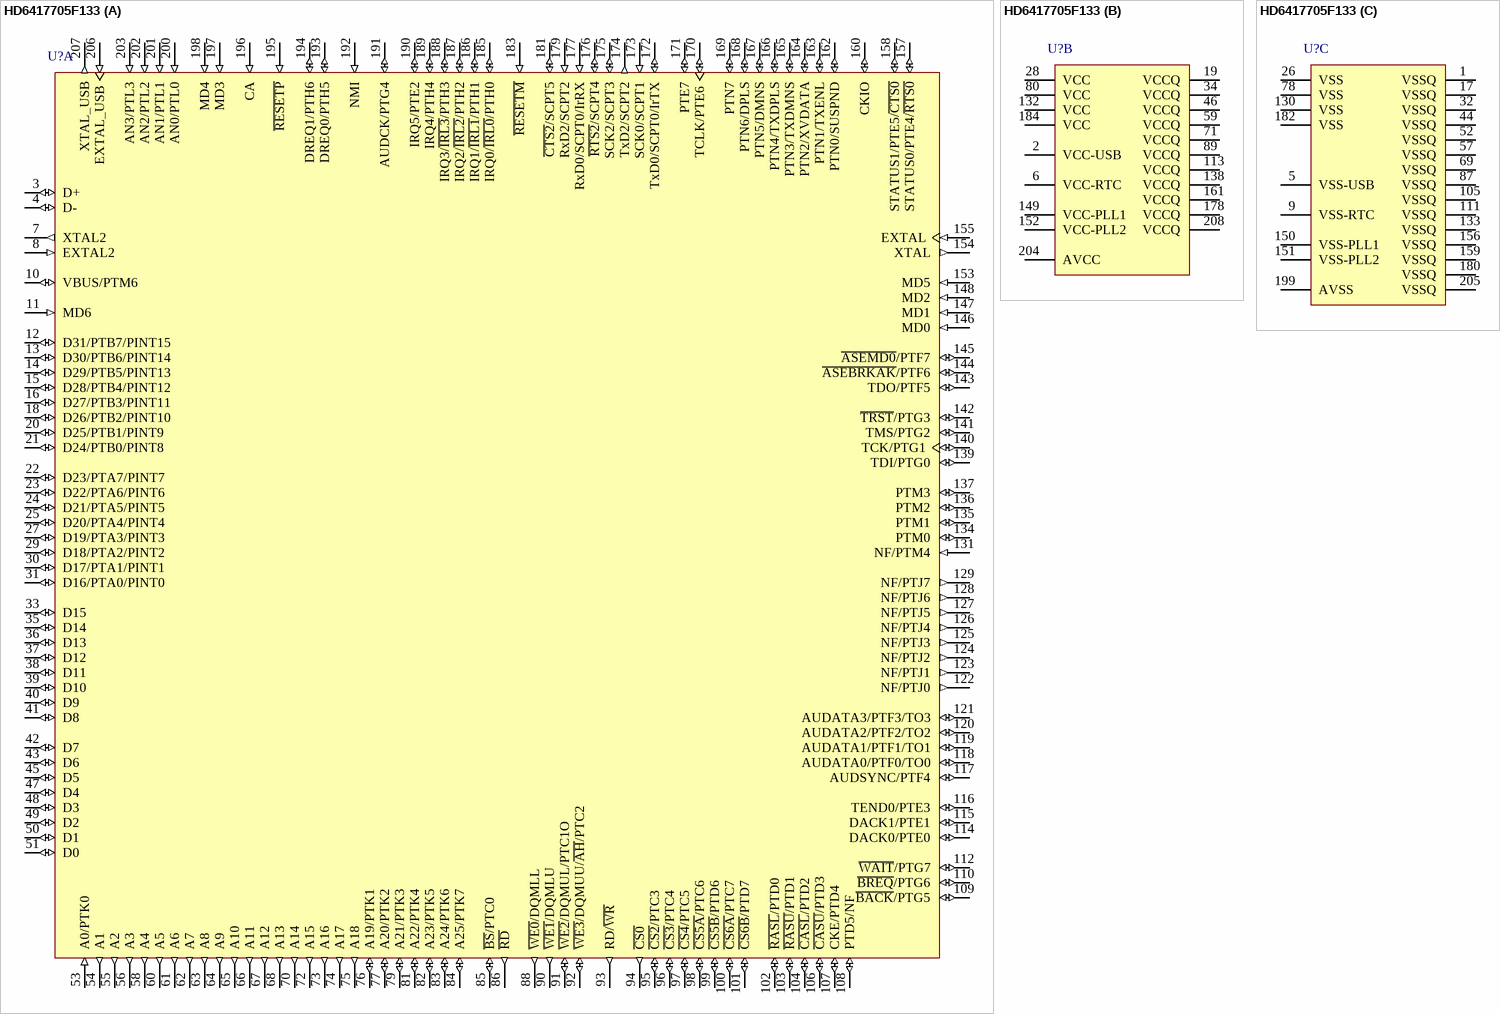
[diagram p29: symbol HD6417705F133]

## HD6417705F133
designator U?
32-Bit RISC Microcomputer, SH7700 Series, SH-3 core, 133MHz, 208-pin LQFP, -20 to 75°C; Published: 28-Aug-2009; DatasheetVersion: Rev.2.00, Sep-2003; PackageVersion: Sep-2005; PackageReference: PLQP0208KA-A; Publisher: Altium Limited; PackageDescription: 208-Pin Plastic Low Profile QFP, 28 x 28 x 1.4 mm Body, 0.5 mm Pitch; Supplier 1: Digi-Key; Supplier Part Number 1: HD6417705F133-ND; Code_JEITA: P-LQFP208-28x28-0.50; ComponentLink1Description: Manufacturer Link; ComponentLink1URL: http://www.renesas.com/fmwk.jsp?cnt=sh7705_root.jsp&fp=/products/mpumcu/superh_family/sh7700_series/sh7705_group/; ComponentLink2Description: Datasheet; ComponentLink2URL: http://documentation.renesas.com/eng/products/mpumcu/rej09b0082_sh7705.pdf; ComponentLink3Description: Packaging Specification; ComponentLink3URL: http://sg.renesas.com/media/products/common_info/package/pdf/ic/code/plqp0208ka_a.pdf
footprint PLQP0208KA-A_N (Shrink QFP, 208-Leads, Body 28x28mm, Pitch 0.5mm, IPC Medium Density)
footprint PLQP0208KA-A_L (Shrink QFP, 208-Leads, Body 28x28mm, Pitch 0.5mm, IPC High Density)
footprint PLQP0208KA-A_M (Shrink QFP, 208-Leads, Body 28x28mm, Pitch 0.5mm, IPC Low Density)
part A pins: 3 D+ (io) "USB data line", 4 D- (io) "USB data line", 7 XTAL2 (out) "Crystal oscillator pin for on-chip RTC", 8 EXTAL2 (in) "Crystal oscillator pin for on-chip RTC", 10 VBUS/PTM6 (io) "USB power supply detection / input/output port M", 11 MD6 (in) "connect to I/O power supply (0V)", 12 D31/PTB7/PINT15 (io) "Data bus / input/output port B / PINT interrupt", 13 D30/PTB6/PINT14 (io) "Data bus / input/output port B / PINT interrupt", 14 D29/PTB5/PINT13 (io) "Data bus / input/output port B / PINT interrupt", 15 D28/PTB4/PINT12 (io) "Data bus / input/output port B / PINT interrupt", 16 D27/PTB3/PINT11 (io) "Data bus / input/output port B / PINT interrupt", 18 D26/PTB2/PINT10 (io) "Data bus / input/output port B / PINT interrupt", 20 D25/PTB1/PINT9 (io) "Data bus / input/output port B / PINT interrupt", 21 D24/PTB0/PINT8 (io) "Data bus / input/output port B / PINT interrupt", 22 D23/PTA7/PINT7 (io) "Data bus / input/output port A / PINT interrupt", 23 D22/PTA6/PINT6 (io) "Data bus / input/output port A / PINT interrupt", 24 D21/PTA5/PINT5 (io) "Data bus / input/output port A / PINT interrupt", 25 D20/PTA4/PINT4 (io) "Data bus / input/output port A / PINT interrupt", 27 D19/PTA3/PINT3 (io) "Data bus / input/output port A / PINT interrupt", 29 D18/PTA2/PINT2 (io) "Data bus / input/output port A / PINT interrupt", 30 D17/PTA1/PINT1 (io) "Data bus / input/output port A / PINT interrupt", 31 D16/PTA0/PINT0 (io) "Data bus / input/output port A / PINT interrupt", 33 D15 (io) "Data bus", 35 D14 (io) "Data bus", 36 D13 (io) "Data bus", 37 D12 (io) "Data bus", 38 D11 (io) "Data bus", 39 D10 (io) "Data bus", 40 D9 (io) "Data bus", 41 D8 (io) "Data bus", 42 D7 (io) "Data bus", 43 D6 (io) "Data bus", 45 D5 (io) "Data bus", 47 D4 (io) "Data bus", 48 D3 (io) "Data bus", 49 D2 (io) "Data bus", 50 D1 (io) "Data bus", 51 D0 (io) "Data bus", 53 A0/PTK0 (in) "Address bus / input/output port K", 54 A1 (out) "Address bus", 55 A2 (out) "Address bus", 56 A3 (out) "Address bus", 58 A4 (out) "Address bus", 60 A5 (out) "Address bus", 61 A6 (out) "Address bus", 62 A7 (out) "Address bus", 63 A8 (out) "Address bus", 64 A9 (out) "Address bus", 65 A10 (out) "Address bus", 66 A11 (out) "Address bus", 67 A12 (out) "Address bus", 68 A13 (out) "Address bus", 70 A14 (out) "Address bus", 72 A15 (out) "Address bus", 73 A16 (out) "Address bus", 74 A17 (out) "Address bus", 75 A18 (out) "Address bus", 76 A19/PTK1 (io) "Address bus / input/output port K", 77 A20/PTK2 (io) "Address bus / input/output port K", 79 A21/PTK3 (io) "Address bus / input/output port K", 81 A22/PTK4 (io) "Address bus / input/output port K", 82 A23/PTK5 (io) "Address bus / input/output port K", 83 A24/PTK6 (io) "Address bus / input/output port K", 84 A25/PTK7 (io) "Address bus / input/output port K", 85 ~{BS}/PTC0 (io) "Bus cycle start signal / input/output port C", 86 ~{RD} (out) "Read strobe", 88 ~{WE0}/DQMLL (out) "D7 to D0 select signal / DQM (SDRAM)", 90 ~{WE1}/DQMLU (out) "D15 to D8 select signal / DQM (SDRAM)", 91 ~{WE2}/DQMUL/PTC1O (io) "D23 to D16 select signal / DQM (SDRAM) / input/output port C", 92 ~{WE3}/DQMUU/~{AH}/PTC2 (io) "D31 to D24 select signal / DQM (SDRAM) / address hold / input/output port C", 93 RD/~{WR} (out) "Read/write", 94 ~{CS0} (out) "Chip select 0", 95 ~{CS2}/PTC3 (io) "Chip select 2 / input/output port C", 96 ~{CS3}/PTC4 (io) "Chip select 3 / input/output port C", 97 ~{CS4}/PTC5 (io) "Chip select 4 / input/output port C", 98 ~{CS5A}/PTC6 (io) "Chip select 5A / input/output port C", 99 ~{CS5B}/PTD6 (io) "Chip select 5B / input/output port D", 100 ~{CS6A}/PTC7 (io) "Chip select 6A / input/output port C", 101 ~{CS6B}/PTD7 (io) "Chip select 6B / input/output port D", 102 ~{RASL}/PTD0 (io) "Lower 32 Mbytes address RAS (SDRAM) / input/output port D", 103 ~{RASU}/PTD1 (io) "Upper 32 Mbytes address RAS (SDRAM) / input/output port D", 104 ~{CASL}/PTD2 (io) "Lower 32 Mbytes address CAS (SDRAM) / input/output port D", 106 ~{CASU}/PTD3 (io) "Upper 32 Mbytes address CAS (SDRAM) / input/output port D", 107 CKE/PTD4 (io) "CK enable (SDRAM) / input/output port D", 108 PTD5/NF (io) "Input port D / NF", 109 ~{BACK}/PTG5 (io) "Bus acknowledge / input/output port G", 110 ~{BREQ}/PTG6 (io) "Bus request / input/output port G", 112 ~{WAIT}/PTG7 (io) "Hardware wait request / input/output port G", 114 DACK0/PTE0 (io) "DMA acknowledge 0 / input/output port E", 115 DACK1/PTE1 (io) "DMA acknowledge 1 / input/output port E", 116 TEND0/PTE3 (io) "DMA transfer end notification / input/outputport E", 117 AUDSYNC/PTF4 (io) "AUD synchronous / input/output port F", 118 AUDATA0/PTF0/TO0 (io) "AUD data output/input/output port F / timer output", 119 AUDATA1/PTF1/TO1 (io) "AUD data output/input/output port F / timer output", 120 AUDATA2/PTF2/TO2 (io) "AUD data output/input/output port F / timer output", 121 AUDATA3/PTF3/TO3 (io) "AUD data output/input/output port F / timer output", 122 NF/PTJ0 (out) "NF / output port J", 123 NF/PTJ1 (out) "NF / output port J", 124 NF/PTJ2 (out) "NF / output port J", 125 NF/PTJ3 (out) "NF / output port J", 126 NF/PTJ4 (out) "NF / output port J", 127 NF/PTJ5 (out) "NF / output port J", 128 NF/PTJ6 (out) "NF / output port J", 129 NF/PTJ7 (out) "NF / output port J", 131 NF/PTM4 (in) "NF / input port M", 134 PTM0 (io) "Input/output port M", 135 PTM1 (io) "Input/output port M", 136 PTM2 (io) "Input/output port M", 137 PTM3 (io) "Input/output port M", 139 TDI/PTG0 (io) "Test data input (UDI) / input/output port G", 140 TCK/PTG1 (io) "Test clock (UDI) / input/output port G", 141 TMS/PTG2 (io) "Test mode select (UDI) / input/output port G", 142 ~{TRST}/PTG3 (io) "Test reset (UDI) / input/outputport G", 143 TDO/PTF5 (io) "Test data output (UDI) / input/output port F", 144 ~{ASEBRKAK}/PTF6 (io) "ASE break acknowledge (UDI) / input/outputport F", 145 ~{ASEMD0}/PTF7 (io) "ASE mode (UDI) / input/output port F", 146 MD0 (in) "Clock mode setting", 147 MD1 (in) "Clock mode setting", 148 MD2 (in) "Clock mode setting", 153 MD5 (in) "Endian setting", 154 XTAL (out) "Crystal oscillator pin", 155 EXTAL (in) "External clock / crystal oscillator pin", 157 STATUS0/PTE4/~{RTS0} (io) "Processor status / input/output port E / SCIF0transmit request", 158 STATUS1/PTE5/~{CTS0} (io) "Processor status/ input/output port E / SCIF0transmit clear", 160 CKIO (io) "I/O System clock input/output", 162 PTN0/SUSPND (io) "input/output port N / USB suspend", 163 PTN1/TXENL (io) "input/output port N / USB output enable", 164 PTN2/XVDATA (io) "input/output port N / USB differential receive input", 165 PTN3/TXDMNS (io) "input/output port N / USB D- transmit output", 166 PTN4/TXDPLS (io) "input/output port N / USB D+ transmit output", 167 PTN5/DMNS (io) "input/output port N / D- input from USBreceiver", 168 PTN6/DPLS (io) "input/output port N / D+ input from USBreceiver", 169 PTN7 (io) "input/output port N", 170 TCLK/PTE6 (io) "TMU clock input / input/output port E", 171 PTE7 (io) "Input/output port E", 172 TxD0/SCPT0/IrTX (io) "SCIF0 transmit data / SC port / IrDA TX port", 173 SCK0/SCPT1 (in) "SCIF0 clock / SC port", 174 TxD2/SCPT2 (out) "SCIF2 transmit data / SC port", 175 SCK2/SCPT3 (io) "SCIF2 clock / SC port", 176 ~{RTS2}/SCPT4 (io) "SCIF2 transmit request / SC port", 177 RxD0/SCPT0/IrRX (in) "SCIF0 receive data / SC port / IrDA RX port", 179 RxD2/SCPT2 (in) "SCIF2 receive data / SC port", 181 ~{CTS2}/SCPT5 (io) "SCIF2 transmit clear / SC port", 183 ~{RESETM} (in) "Manual reset request", 185 IRQ0/~{IRL0}/PTH0 (io) "External interrupt request / input/output port H", 186 IRQ1/~{IRL1}/PTH1 (io) "External interrupt request / input/output port H", 187 IRQ2/~{IRL2}/PTH2 (io) "External interrupt request / input/output port H", 188 IRQ3/~{IRL3}/PTH3 (io) "External interrupt request / input/output port H", 189 IRQ4/PTH4 (io) "External interrupt request / input/output port H", 190 IRQ5/PTE2 (io) "External interrupt request / input/output port E", 191 AUDCK/PTG4 (io) "AUD clock / input/output port G", 192 NMI (in) "Nonmaskable interrupt request", 193 DREQ0/PTH5 (io) "DMA request / input/output port H", 194 DREQ1/PTH6 (io) "DMA request / input/output port H", 195 ~{RESETP} (in) "Power-on reset request", 196 CA (in) "Hardware standby request", 197 MD3 (in) "Area 0 bus width setting", 198 MD4 (in) "Area 0 bus width setting", 200 AN0/PTL0 (in) "A/D converter input / input port L", 201 AN1/PTL1 (in) "A/D converter input / input port L", 202 AN2/PTL2 (in) "A/D converter input / input port L", 203 AN3/PTL3 (in) "A/D converter input / input port L", 206 EXTAL_USB (in) "USB clock", 207 XTAL_USB (out) "USB clock"
part B pins: 2 VCC-USB (power) "USB power supply (3.3V)", 6 VCC-RTC (power) "RTC power supply (3.3V)", 19 VCCQ (power) "I/O power supply (3.3V)", 28 VCC (power) "Internal power supply (1.5V)", 34 VCCQ (power) "I/O power supply (3.3V)", 46 VCCQ (power) "I/O power supply (3.3V)", 59 VCCQ (power) "I/O power supply (3.3V)", 71 VCCQ (power) "I/O power supply (3.3V)", 80 VCC (power) "internal power supply (1.5V)", 89 VCCQ (power) "I/O power supply (3.3V)", 113 VCCQ (power) "I/O power supply (3.3V)", 132 VCC (power) "Internal power supply (1.5V)", 138 VCCQ (power) "I/O power supply (3.3V)", 149 VCC-PLL1 (power) "PLL1 power supply (1.5V)", 152 VCC-PLL2 (power) "PLL2 power supply (1.5V)", 161 VCCQ (power) "I/O power supply (3.3V)", 178 VCCQ (power) "I/O power supply (3.3V)", 184 VCC (power) "Internal power supply (1.5V)", 204 AVCC (power) "Analog power supply (3.3V)", 208 VCCQ (power) "I/O power supply (3.3V)"
part C pins: 1 VSSQ (power) "I/O power supply (0V)", 5 VSS-USB (power) "USB power supply (0V)", 9 VSS-RTC (power) "RTC power supply (0V)", 17 VSSQ (power) "I/O power supply (0V)", 26 VSS (power) "Internal power supply (0V)", 32 VSSQ (power) "I/O power supply (0V)", 44 VSSQ (power) "I/O power supply (0V)", 52 VSSQ (power) "I/O power supply (0V)", 57 VSSQ (power) "I/O power supply (0V)", 69 VSSQ (power) "I/O power supply (0V)", 78 VSS (power) "internal power supply (0V)", 87 VSSQ (power) "I/O power supply (0V)", 105 VSSQ (power) "I/O power supply (0V)", 111 VSSQ (power) "I/O power supply (0V)", 130 VSS (power) "Internal power supply (0V)", 133 VSSQ (power) "I/O power supply (0V)", 150 VSS-PLL1 (power) "PLL1 power supply (0V)", 151 VSS-PLL2 (power) "PLL2 power supply (0V)", 156 VSSQ (power) "I/O power supply (0V)", 159 VSSQ (power) "I/O power supply (0V)", 180 VSSQ (power) "I/O power supply (0V)", 182 VSS (power) "I/O power supply (0V)", 199 AVSS (power) "Analog power supply (0V)", 205 VSSQ (power) "I/O power supply (0V)"

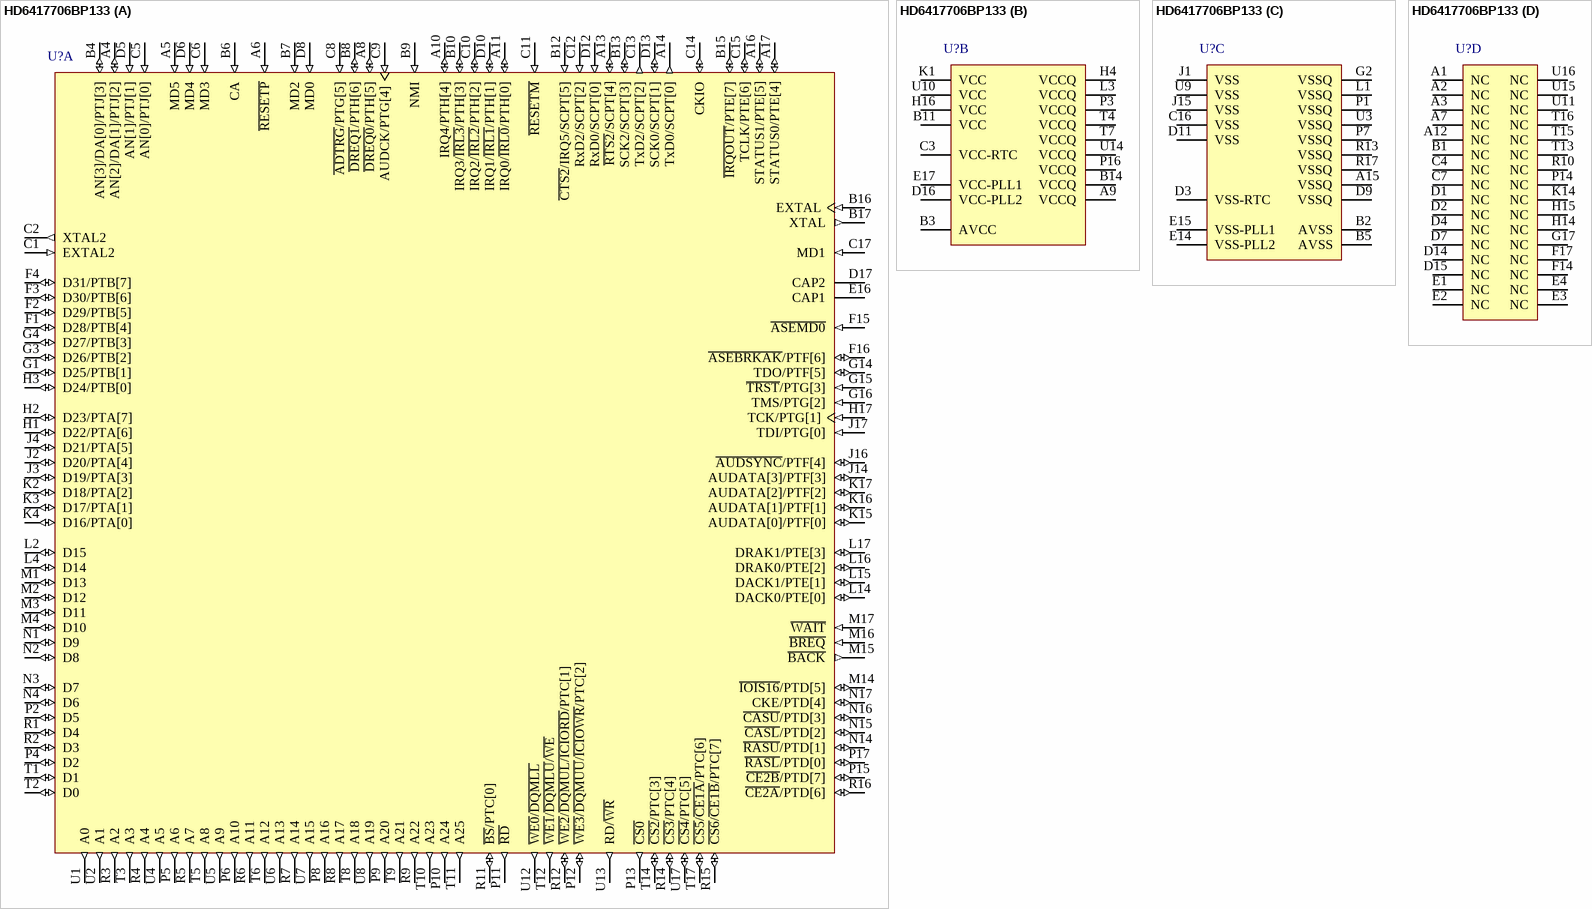
[diagram p30: symbol HD6417706BP133]